# Altium footprint library J 集成块.PCBLIB: 89 footprints (part 1 of 6)
Each footprint in its own frame and in the unit in brackets; x right, y up, seen from the top. Pads: shape width x height; smd on the part's side, far side on the other; paste and mask are expansions set on the pad; w line width, h text height; cw(c..) or ccw(c..) is an arc to the next point about the centre after c.
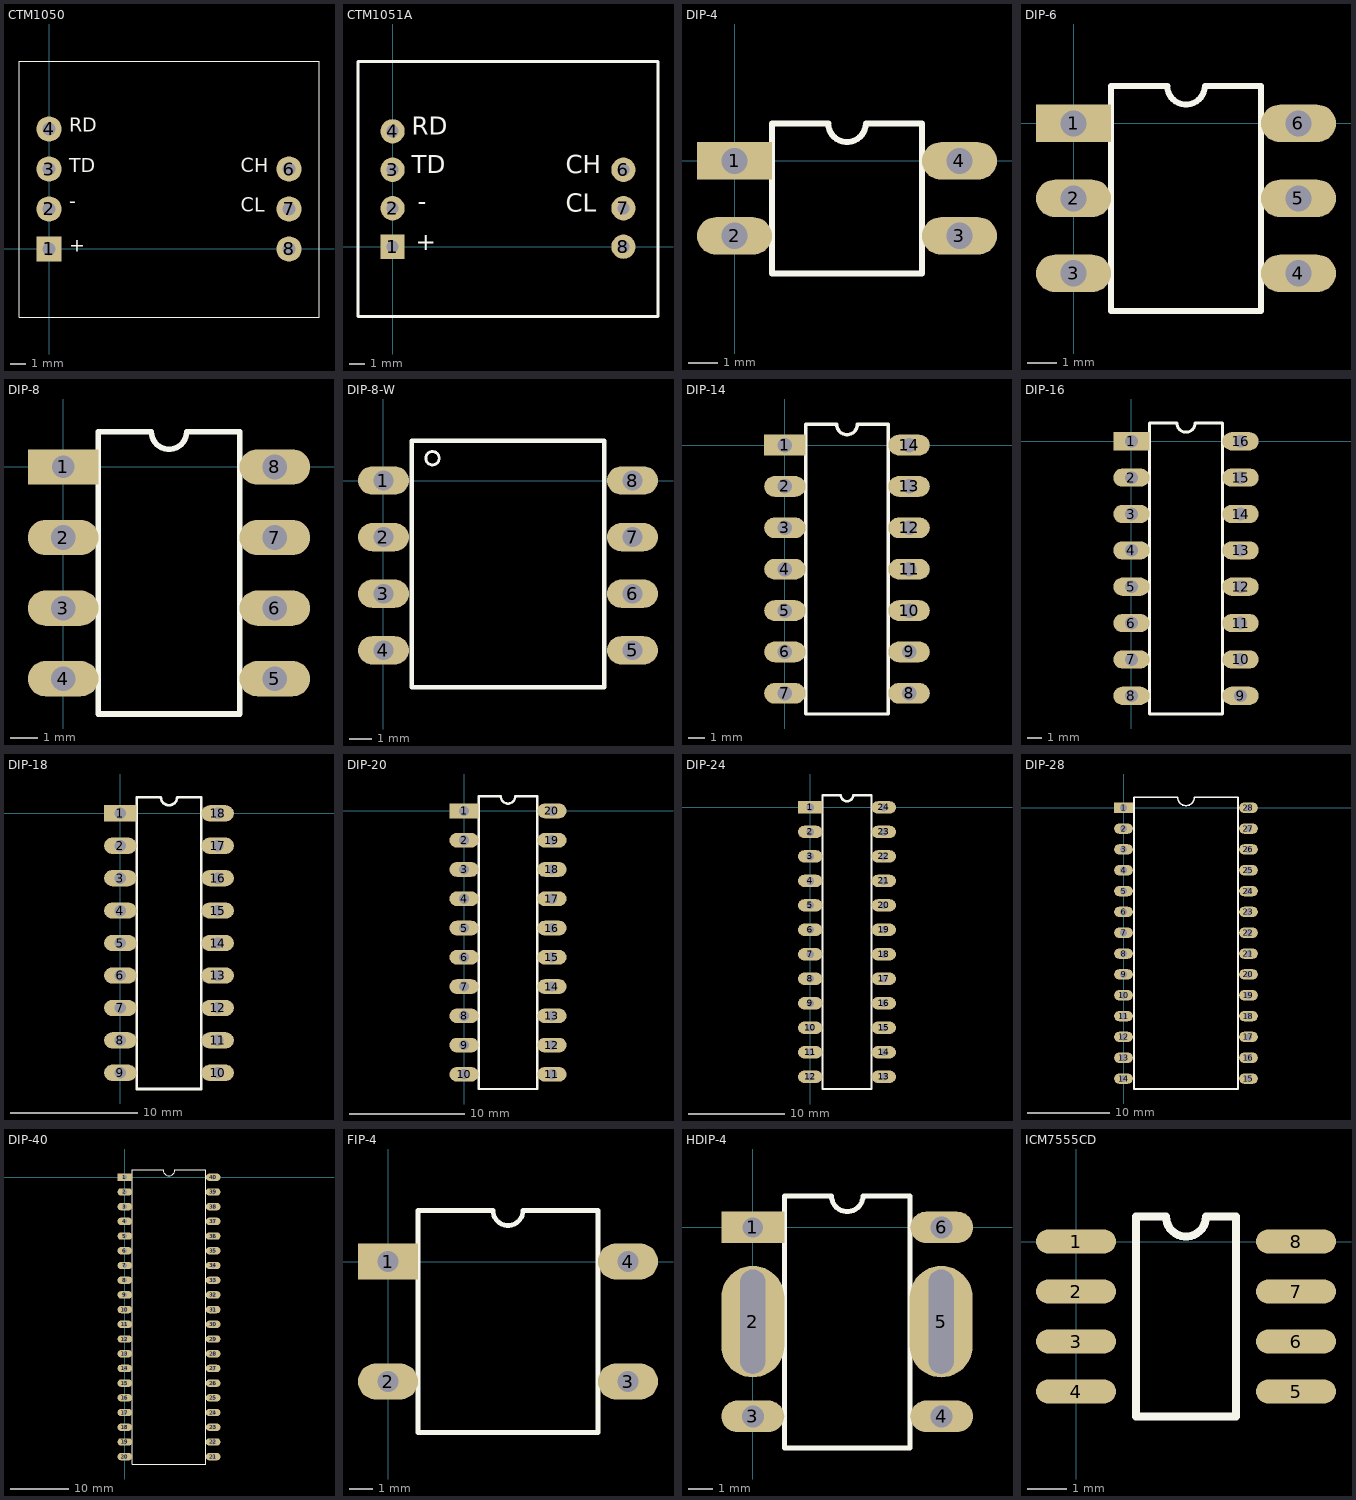
[diagram p0: the footprints below, top view; thin cyan lines are the x and y axes]

## CTM1050 [mm] "5V,新CAN收发器,20130401"
pads (7):
  rect 1.6x1.6 hole 0.8: 1(0,0)
  round 1.6 hole 0.8: 2(0,2.54) 3(0,5.08) 4(0,7.62) 6(15.24,5.08) 7(15.24,2.54) 8(15.24,0)
Top Overlay:
  lines w0.076: -1.905,-4.318 17.145,-4.318 17.145,11.938 -1.905,11.938 -1.905,-4.318
  text "RD" at 1.27,7.112 h1.52
  text "TD" at 1.27,4.572 h1.52
  text "-" at 1.27,2.286 h1.52
  text "+" at 1.27,-0.508 h1.52
  text "CL" at 12.192,2.032 h1.52
  text "CH" at 12.192,4.572 h1.52
Bottom Overlay:
  text "CL" at 13.716,2.032 h1.52
  text "CH" at 13.97,4.572 h1.52
  text "+" at 2.032,-0.508 h1.52
  text "-" at 1.778,2.286 h1.52
  text "TD" at 2.794,4.572 h1.52
  text "RD" at 3.048,7.112 h1.52

## CTM1051A [mm] "3.3V,新CAN收发器,20130401"
height 4.5
pads (7):
  rect 1.6x1.6 hole 0.8: 1(0,0)
  round 1.6 hole 0.8: 2(0,2.54) 3(0,5.08) 4(0,7.62) 6(15.24,5.08) 7(15.24,2.54) 8(15.24,0)
Top Overlay:
  lines w0.203: -2.28,-4.6 -2.28,12.22 17.52,12.22 17.52,-4.6 -2.28,-4.6
  text "CH" at 11.43,4.445 h2.03
  text "CL" at 11.43,1.905 h2.03
  text "+" at 1.524,-0.635 h2.03
  text "-" at 1.651,2.032 h2.03
  text "TD" at 1.27,4.445 h2.03
  text "RD" at 1.27,6.985 h2.03
Bottom Overlay:
  text "RD" at 3.81,6.985 h2.03
  text "TD" at 1.27,5.715 h2.03
  text "-" at 2.286,2.032 h2.03
  text "+" at 2.413,-0.635 h2.03
  text "CH" at 11.43,5.715 h2.03
  text "CL" at 11.43,3.175 h2.03

## DIP-4 [mil] "IC"
pads (4):
  rect 100x50 hole 35: 1(0,0)
  oval 100x50 hole 35: 2(0,-100) 3(300,-100) 4(300,0)
Top Overlay:
  lines w8: 50,-150 250,-150 250,50 175,50 cw(c150,50) 125,50 50,50 50,-150

## DIP-6 [mil] "IC"
pads (6):
  rect 100x50 hole 35: 1(0,0)
  oval 100x50 hole 35: 2(0,-100) 3(0,-200) 4(300,-200) 5(300,-100) 6(300,0)
Top Overlay:
  lines w8: 50,-250 50,50 125,50 ccw(c150,50) 175,50 250,50 250,-250 50,-250

## DIP-8 [mil] "IC"
pads (8):
  rect 100x50 hole 32: 1(0,0)
  oval 100x50 hole 35: 2(0,-100) 3(0,-200) 4(0,-300) 5(300,-300) 6(300,-200) 7(300,-100) 8(300,0)
Top Overlay:
  lines w8: 50,-350 50,50 125,50 ccw(c150,50) 175,50 250,50 250,-350 50,-350

## DIP-8-W [mil]
pads (8):
  oval 90x50 hole 35: 1(0,0) 2(0,-100) 3(0,-200) 4(0,-300) 5(440,-300) 6(440,-200) 7(440,-100) 8(440,0)
Top Overlay:
  circle w5: c86.61,39.37 r11.81
  lines w8: 50,-365 390,-365 390,70 50,70 50,-363.07

## DIP-14 [mil] "IC"
pads (14):
  rect 100x50 hole 35: 1(0,0)
  oval 100x50 hole 35: 2(0,-100) 3(0,-200) 4(0,-300) 5(0,-400) 6(0,-500) 7(0,-600) 8(300,-600) 9(300,-500) 10(300,-400) 11(300,-300) 12(300,-200) 13(300,-100) 14(300,0)
Top Overlay:
  lines w8: 50,-650 50,50 125,50 ccw(c150,50) 175,50 250,50 250,-650 50,-650

## DIP-16 [mil] "IC"
pads (16):
  rect 100x50 hole 35: 1(0,0)
  oval 100x50 hole 35: 2(0,-100) 3(0,-200) 4(0,-300) 5(0,-400) 6(0,-500) 7(0,-600) 8(0,-700) 9(300,-700) 10(300,-600) 11(300,-500) 12(300,-400) 13(300,-300) 14(300,-200) 15(300,-100) 16(300,0)
Top Overlay:
  lines w8: 50,-750 250,-750 250,50 175,50 cw(c150,50) 125,50 50,50 50,-750

## DIP-18 [mil]
pads (18):
  rect 100x50 hole 35: 1(0,0)
  oval 100x50 hole 35: 2(0,-100) 3(0,-200) 4(0,-300) 5(0,-400) 6(0,-500) 7(0,-600) 8(0,-700) 9(0,-800) 10(300,-800) 11(300,-700) 12(300,-600) 13(300,-500) 14(300,-400) 15(300,-300) 16(300,-200) 17(300,-100) 18(300,0)
Top Overlay:
  lines w8: 50,-850 250,-850 250,50 175,50 cw(c150,50) 125,50 50,50 50,-850

## DIP-20 [mil] "IC"
pads (20):
  rect 100x50 hole 35: 1(0,0)
  oval 100x50 hole 35: 2(0,-100) 3(0,-200) 4(0,-300) 5(0,-400) 6(0,-500) 7(0,-600) 8(0,-700) 9(0,-800) 10(0,-900) 11(300,-900) 12(300,-800) 13(300,-700) 14(300,-600) 15(300,-500) 16(300,-400) 17(300,-300) 18(300,-200) 19(300,-100) 20(300,0)
Top Overlay:
  lines w8: 50,-950 50,50 125,50 ccw(c150,50) 175,50 250,50 250,-950 50,-950

## DIP-24 [mil]
pads (24):
  rect 100x50 hole 32: 1(0,0)
  oval 100x50 hole 32: 2(0,-100) 3(0,-200) 4(0,-300) 5(0,-400) 6(0,-500) 7(0,-600) 8(0,-700) 9(0,-800) 10(0,-900) 11(0,-1000) 12(0,-1100) 13(300,-1100) 14(300,-1000) 15(300,-900) 16(300,-800) 17(300,-700) 18(300,-600) 19(300,-500) 20(300,-400) 21(300,-300) 22(300,-200) 23(300,-100) 24(300,0)
Top Overlay:
  lines w10: 50,-1150 50,50 125,50 ccw(c150,50) 175,50 250,50 250,-1150 50,-1150

## DIP-28 [mil] "集成电路"
pads (28):
  rect 90x50 hole 35: 1(0,0)
  oval 90x50 hole 35: 2(0,-100) 3(0,-200) 4(0,-300) 5(0,-400) 6(0,-500) 7(0,-600) 8(0,-700) 9(0,-800) 10(0,-900) 11(0,-1000) 12(0,-1100) 13(0,-1200) 14(0,-1300) 15(600,-1300) 16(600,-1200) 17(600,-1100) 18(600,-1000) 19(600,-900) 20(600,-800) 21(600,-700) 22(600,-600) 23(600,-500) 24(600,-400) 25(600,-300) 26(600,-200) 27(600,-100) 28(600,0)
Top Overlay:
  lines w8: 50,-1350 550,-1350 550,50 340,50 cw(c300,50) 260,50 50,50 50,-1350

## DIP-40 [mil] "IC"
pads (40):
  rect 100x50 hole 32: 1(0,0)
  oval 100x50 hole 32: 2(0,-100) 3(0,-200) 4(0,-300) 5(0,-400) 6(0,-500) 7(0,-600) 8(0,-700) 9(0,-800) 10(0,-900) 11(0,-1000) 12(0,-1100) 13(0,-1200) 14(0,-1300) 15(0,-1400) 16(0,-1500) 17(0,-1600) 18(0,-1700) 19(0,-1800) 20(0,-1900) 21(600,-1900) 22(600,-1800) 23(600,-1700) 24(600,-1600) 25(600,-1500) 26(600,-1400) 27(600,-1300) 28(600,-1200) 29(600,-1100) 30(600,-1000) 31(600,-900) 32(600,-800) 33(600,-700) 34(600,-600) 35(600,-500) 36(600,-400) 37(600,-300) 38(600,-200) 39(600,-100) 40(600,0)
Top Overlay:
  lines w8: 50,-1950 50,50 260,50 ccw(c300,50) 340,50 550,50 550,-1950 50,-1950

## FIP-4 [mil]
height 25
pads (4):
  rect 100x60 hole 35: 1(0,0)
  oval 100x60 hole 35: 2(0,-200) 3(400,-200) 4(400,0)
Top Overlay:
  lines w8: 50,-285 50,85 175,85 ccw(c200,85) 225,85 350,85 350,-285 50,-285

## HDIP-4 [mm] "IC"
pads (6):
  rect 2.54x1.27 hole 0.813: 1(0,0)
  oval 2.54x4.5 hole 1 slot 4.2 at 90 deg: 2(0,-3.8) 5(7.6,-3.8)
  oval 2.54x1.27 hole 0.889: 3(0,-7.62) 4(7.62,-7.62) 6(7.62,0)
Top Overlay:
  lines w0.203: 1.27,-8.89 1.27,1.27 3.175,1.27 ccw(c3.81,1.27) 4.445,1.27 6.35,1.27 6.35,-8.89 1.27,-8.89

## ICM7555CD [mil] "贴片-IC"
pads (8):
  oval 80x24 smd: 1(0,0) 2(0,-50) 3(0,-100) 4(0,-150) 5(220,-150) 6(220,-100) 7(220,-50) 8(220,0)
Top Overlay:
  lines w8: 60,-175 60,25 90,25 ccw(c110,25) 130,25 160,25 160,-175 60,-175